# Altium footprint library WATSH.PcbLib: 14 footprints
Each footprint in its own frame and in the unit in brackets; x right, y up, seen from the top. Pads: shape width x height; smd on the part's side, far side on the other; paste and mask are expansions set on the pad; w line width, h text height; cw(c..) or ccw(c..) is an arc to the next point about the centre after c.
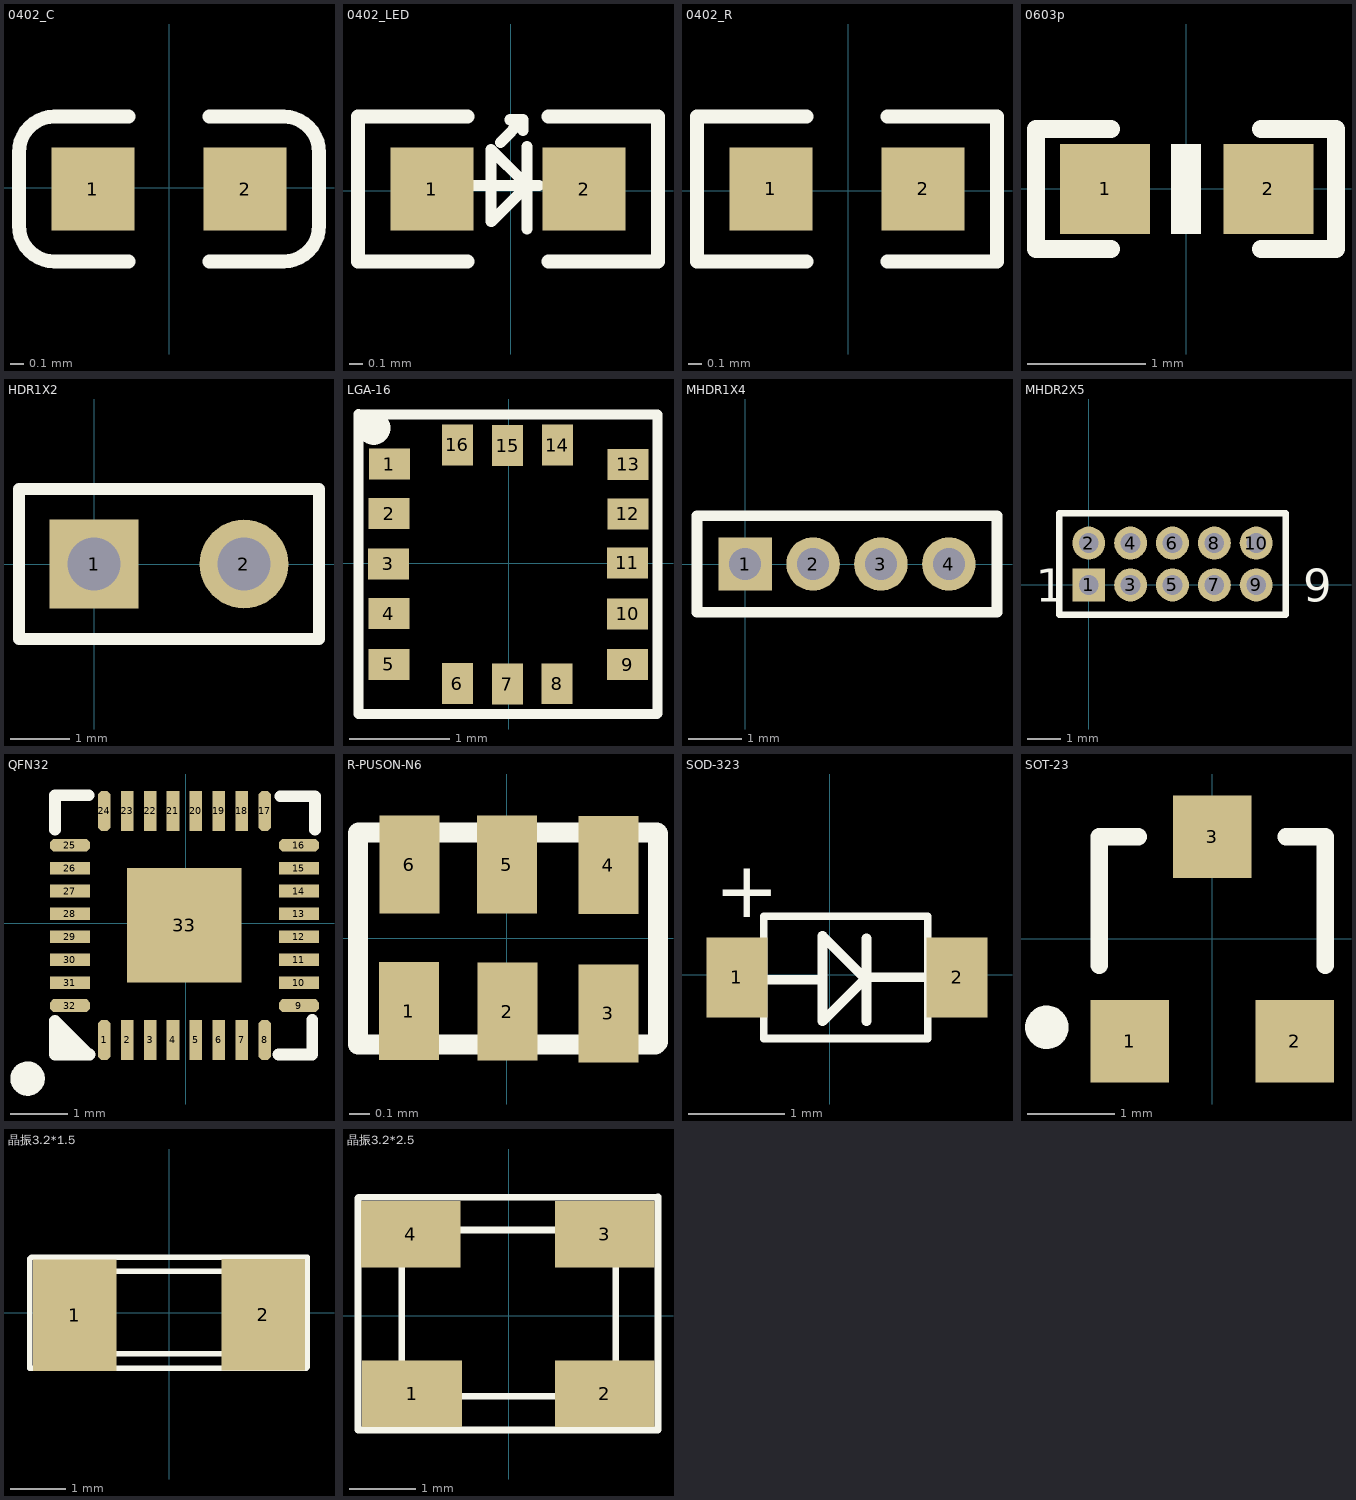
[diagram p0: the footprints below, top view; thin cyan lines are the x and y axes]

## 0402_C [mm]
pads (2):
  rect 0.6x0.6 smd: 1(-0.553,-0.008) 2(0.547,-0.008)
Top Overlay:
  lines w0.1: -1.087,-0.28 -1.087,0.259 ; -1.087,-0.271 ccw(c-0.83,-0.274) -0.83,-0.532 ; -1.087,0.256 cw(c-0.83,0.259) -0.83,0.516 ; -0.83,-0.533 -0.295,-0.533 ; -0.83,0.518 -0.295,0.518 ; 0.29,-0.533 0.825,-0.533 ; 0.29,0.518 0.825,0.518 ; 0.825,-0.532 ccw(c0.825,-0.274) 1.082,-0.271 ; 0.825,0.516 cw(c0.825,0.259) 1.082,0.256 ; 1.082,-0.274 1.082,0.265

## 0402_LED [mm]
pads (2):
  rect 0.6x0.6 smd: 1(-0.568,0.013) 2(0.532,0.013)
Top Overlay:
  lines w0.08: -0.265,0.039 0.205,0.039 ; -0.141,-0.221 -0.141,0.3 0.108,0.051 0.108,0.023 -0.139,-0.223 ; -0.074,0.35 0.09,0.514 ; -0.004,0.514 0.09,0.514 ; 0.09,0.435 0.09,0.514 ; 0.12,-0.275 0.12,0.322
  lines w0.1: -0.311,-0.512 -1.103,-0.512 -1.103,0.538 -0.311,0.538 ; 0.274,-0.512 1.066,-0.512 1.066,0.538 0.274,0.538

## 0402_R [mm]
pads (2):
  rect 0.6x0.6 smd: 1(-0.558,0.013) 2(0.542,0.013)
Top Overlay:
  lines w0.1: -0.301,-0.513 -1.093,-0.512 -1.093,0.538 -0.301,0.538 ; 0.284,-0.513 1.077,-0.512 1.077,0.538 0.284,0.538

## 0603p [mil]
pads (2):
  rect 30x30 smd: 1(-27,0) 2(27.5,-0.06)
Top Overlay:
  region: 5.01,-15.06 5.01,14.94 -4.99,14.94 -4.99,-15.06
  lines w6: -25,-20.06 -50,-20.06 -50,19.94 -25,19.94 ; 25,-20.06 50,-20.06 50,19.94 25,19.94

## HDR1X2 [mm]
pads (2):
  rect 1.5x1.5 hole 0.9: 1(0,0)
  round 1.5 hole 0.9: 2(2.54,0)
Top Overlay:
  lines w0.2: -1.27,-1.27 -1.27,1.27 3.81,1.27 3.81,-1.27 -1.27,-1.27

## LGA-16 [mm]
pads (16):
  rect 0.41x0.31 smd: 1(-1.193,0.994) 2(-1.198,0.497) 3(-1.204,-0.005) 4(-1.199,-0.502) 5(-1.2,-1.01) 9(1.19,-1.014) 10(1.19,-0.506) 11(1.189,0.004) 12(1.192,0.494) 13(1.196,0.99)
  rect 0.31x0.41 smd: 6(-0.515,-1.203) 7(-0.012,-1.21) 8(0.485,-1.205) 14(0.486,1.182) 15(-0.011,1.178) 16(-0.514,1.184)
Top Overlay:
  circle w0.254: c-1.35,1.353 r0.04
  lines w0.1: -1.505,-1.508 1.485,-1.508 1.491,-1.502 1.491,1.488 -1.498,1.488 -1.505,1.494 -1.505,-1.508

## MHDR1X4 [mm]
pads (4):
  rect 1x1 hole 0.6: 1(0,0)
  round 1 hole 0.6: 2(1.27,0) 3(2.54,0) 4(3.81,0)
Top Overlay:
  lines w0.2: -0.9,-0.9 -0.9,0.9 4.71,0.9 4.71,-0.9 -0.9,-0.9

## MHDR2X5 [mm]
pads (10):
  rect 1x1 hole 0.6: 1(0,0)
  round 1 hole 0.6: 2(0,1.27) 3(1.27,0) 4(1.27,1.27) 5(2.54,0) 6(2.54,1.27) 7(3.81,0) 8(3.81,1.27) 9(5.08,0) 10(5.08,1.27)
Top Overlay:
  lines w0.2: -0.9,-0.9 5.98,-0.9 5.98,2.17 -0.9,2.17 -0.9,-0.9
  text "1" at -1.6,-0.508 h1
  text "9" at 6.5,-0.508 h1

## QFN32 [mm]
pads (33):
  oct 0.22x0.7 smd: 1(-1.423,-2.039) 8(1.377,-2.039) 17(1.377,1.961) 24(-1.423,1.961)
  rect 0.22x0.7 smd: 2(-1.023,-2.039) 3(-0.623,-2.039) 4(-0.223,-2.039) 5(0.177,-2.039) 6(0.577,-2.039) 7(0.977,-2.039) 18(0.977,1.961) 19(0.577,1.961) 20(0.177,1.961) 21(-0.223,1.961) 22(-0.623,1.961) 23(-1.023,1.961)
  oct 0.7x0.22 smd: 9(1.977,-1.439) 16(1.977,1.361) 25(-2.023,1.361) 32(-2.023,-1.439)
  rect 0.7x0.22 smd: 10(1.977,-1.039) 11(1.977,-0.639) 12(1.977,-0.239) 13(1.977,0.161) 14(1.977,0.561) 15(1.977,0.961) 26(-2.023,0.961) 27(-2.023,0.561) 28(-2.023,0.161) 29(-2.023,-0.239) 30(-2.023,-0.639) 31(-2.023,-1.039)
  rect 2x2 smd: 33(-0.023,-0.039)
Top Overlay:
  circle w0.3: c-2.762,-2.715 r0.15
  lines w0.203: -2.283,1.63 -2.283,2.234 -1.695,2.234 ; -2.009,-2.232 -2.283,-1.958 -2.283,-1.707 ; -1.695,-2.294 -2.283,-1.707 ; -1.678,-2.294 -2.283,-2.294 -2.283,-1.707 ; 1.619,-2.294 2.206,-2.294 2.206,-1.69 ; 1.653,2.217 2.257,2.217 2.257,1.63

## R-PUSON-N6 [mm]
pads (6):
  rect 0.3x0.49 smd: 1(-0.49,-0.365) 2(0.003,-0.368) 3(0.508,-0.377) 4(0.508,0.365) 5(0,0.368) 6(-0.487,0.368)
Top Overlay:
  lines w0.1: -0.744,-0.532 0.744,-0.532 0.756,-0.52 0.756,0.523 0.75,0.529 -0.741,0.529 -0.744,0.526 -0.744,-0.532

## SOD-323 [mm]
pads (2):
  rect 0.63x0.83 smd: 1(-0.965,-0.025) 2(1.321,-0.025)
Top Overlay:
  lines w0.08: -0.686,-0.66 1.016,-0.66 1.016,0.61 -0.686,0.61 -0.686,-0.66
  lines w0.1: -0.635,-0.051 -0.076,-0.051 ; 0.381,-0.483 0.381,0.381 ; 1.016,-0.025 0.356,-0.025 ; 0.356,-0.025 0.356,-0.051 -0.076,-0.483 -0.076,0.406 0.356,-0.025
  text "+" at -1.194,0.406 h1

## SOT-23 [mm]
pads (3):
  rect 0.9x0.95 smd: 1(-0.95,-1.175) 2(0.95,-1.175) 3(0,1.175)
Top Overlay:
  circle w0.25: c-1.903,-1.016 r0.125
  lines w0.2: -1.3,-0.3 -1.3,1.175 -0.85,1.175 ; 0.85,1.175 1.3,1.175 1.3,-0.3

## 晶振3.2*1.5 [mm]
pads (2):
  rect 1.5x2 smd: 1(-1.696,-0.042) 2(1.693,-0.034)
Top Overlay:
  lines w0.1: -2.501,-0.993 2.462,-0.993 2.484,-0.971 2.484,0.998 -2.472,0.998 -2.501,0.969 -2.501,-0.993 ; -1.601,0.749 1.613,0.749 1.62,0.756 1.62,-0.722 1.605,-0.737 -1.593,-0.737 -1.593,0.742 -1.601,0.749

## 晶振3.2*2.5 [mm]
pads (4):
  rect 1.5x1 smd: 1(-1.453,-1.175) 2(1.45,-1.175) 3(1.45,1.233) 4(-1.473,1.233)
Top Overlay:
  lines w0.1: -2.267,-1.717 2.251,-1.717 2.251,1.796 2.244,1.789 -2.253,1.789 -2.267,1.776 -2.267,-1.717 ; -1.609,-1.195 -1.609,1.294 1.6,1.294 1.613,1.281 1.613,-1.209 -1.595,-1.209 -1.609,-1.195